# Altium schematic symbol library TGHG.SchLib: 1 symbol
Pins are listed as number, name and electrical type; pins without a type are passive.

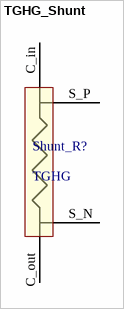
[diagram p0: symbol TGHG_Shunt]

## TGHG_Shunt
designator Shunt_R?, comment TGHG
Shunt Resistance; Manufacturer: Ohmite
footprint TGHG_Ohmite (Shunt Resistance)
pins: C_in, C_out, S_N, S_P